# EAGLE library part TXS0108E (library lightsaber)
Level shifter: TXS0108E
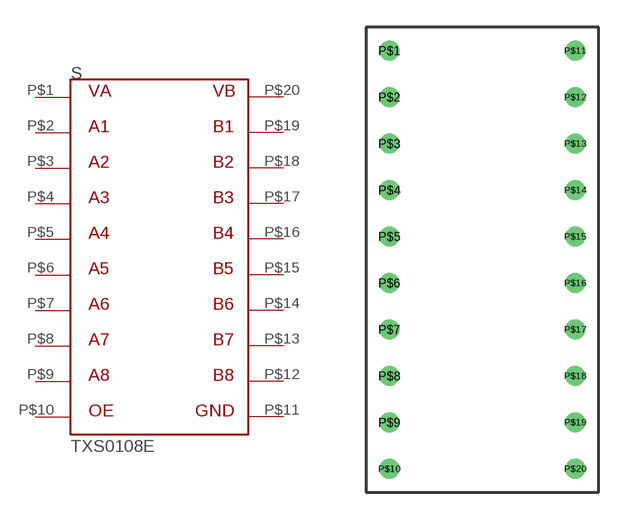
[diagram p3: symbol with the pads of TXS0108E; footprint TXS0108E]

Designator prefix S

## TXS0108E  [TXS0108E]
P$1  P$1
P$2  P$2
P$3  P$3
P$4  P$4
P$5  P$5
P$6  P$6
P$7  P$7
P$8  P$8
P$9  P$9
P$10  P$10
P$11  P$11
P$12  P$12
P$13  P$13
P$14  P$14
P$15  P$15
P$16  P$16
P$17  P$17
P$18  P$18
P$19  P$19
P$20  P$20

## Footprint TXS0108E (pad centres in mm)
drill 0.6: P$1 -5.08,11.43; P$2 -5.08,8.89; P$3 -5.08,6.35; P$4 -5.08,3.81; P$5 -5.08,1.27; P$6 -5.08,-1.27; P$7 -5.08,-3.81; P$8 -5.08,-6.35; P$9 -5.08,-8.89; P$10 -5.08,-11.43; P$11 5.08,11.43; P$12 5.08,8.89; P$13 5.08,6.35; P$14 5.08,3.81; P$15 5.08,1.27; P$16 5.08,-1.27; P$17 5.08,-3.81; P$18 5.08,-6.35; P$19 5.08,-8.89; P$20 5.08,-11.43